# EAGLE library part VND5160J-E (library Z_GessIOMod)
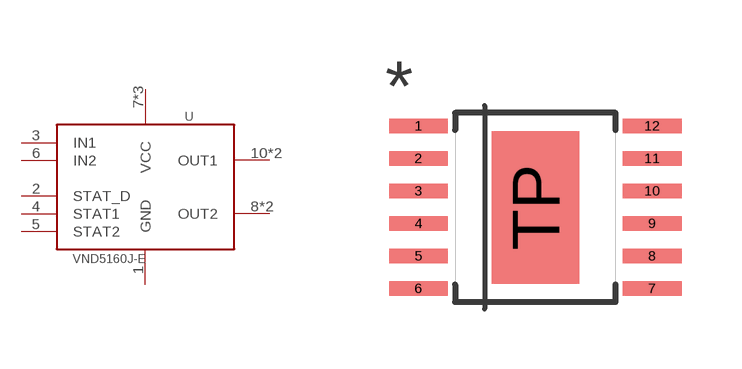
[diagram p7: symbol with the pads of POWERSSO12; footprint POWERSSO12]

Designator prefix -

## VND5160J-E  [POWERSSO12]
1  GND  sup
2  STAT_D  in
3  IN1  in
4  STAT1  out
5  STAT2  out
6  IN2  in
7  VCC  sup
8  OUT2  out
9  OUT2  out
10  OUT1  out
11  OUT1  out
12  VCC  sup
TP  VCC  sup

## Footprint POWERSSO12 (pad centres in mm)
smd 1.473 x 0.356: 1 -2.921,2.032; 2 -2.921,1.219; 3 -2.921,0.406; 4 -2.921,-0.406; 5 -2.921,-1.219; 6 -2.921,-2.032; 7 2.921,-2.032; 8 2.921,-1.219; 9 2.921,-0.406; 10 2.921,0.406; 11 2.921,1.219; 12 2.921,2.032
smd 2.184 x 3.81: TP 0,0